# EAGLE library part LIS3DH (library cTechnologies_integratedCircuits)
MEMS digital output motion sensor ultra low-power high performance 3-axes “nano” accelerometer
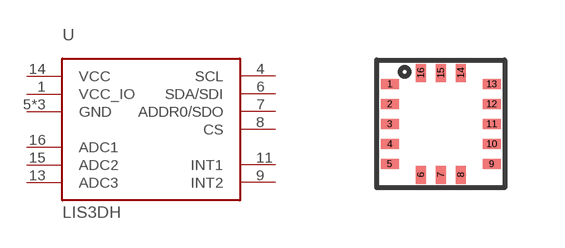
[diagram p11: symbol with the pads of LGA-16; footprint LGA-16]

Designator prefix U

## LIS3DH  [LGA-16]
1  VCC_IO
4  SCL
5  GND
6  SDA/SDI
7  ADDR0/SDO
8  CS
9  INT2
10  GND
11  INT1
12  GND
13  ADC3
14  VCC
15  ADC2
16  ADC1

## Footprint LGA-16 (pad centres in mm)
smd 0.45 x 0.25: 1 -1.275,1; 2 -1.275,0.5; 3 -1.275,0; 4 -1.275,-0.5; 5 -1.275,-1; 9 1.275,-1; 10 1.275,-0.5; 11 1.275,0; 12 1.275,0.5; 13 1.275,1
smd 0.25 x 0.45: 6 -0.5,-1.275; 7 0,-1.275; 8 0.5,-1.275; 14 0.5,1.275; 15 0,1.275; 16 -0.5,1.275